# Altium schematic symbol library SCH - CONNECTORS - Display Visions - EA WF030-39S.SchLib: 1 symbol
Pins are listed as number, name and electrical type; pins without a type are passive.

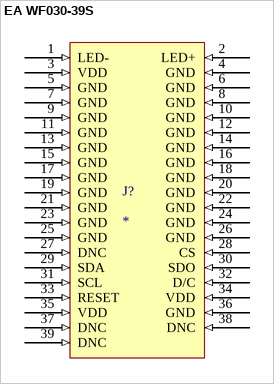
[diagram p0: symbol EA WF030-39S]

## EA WF030-39S
designator J?
pins: 1 LED- (in), 2 LED+ (in), 3 VDD (in), 4 GND (in), 5 GND (in), 6 GND (in), 7 GND (in), 8 GND (in), 9 GND (in), 10 GND (in), 11 GND (in), 12 GND (in), 13 GND (in), 14 GND (in), 15 GND (in), 16 GND (in), 17 GND (in), 18 GND (in), 19 GND (in), 20 GND (in), 21 GND (in), 22 GND (in), 23 GND (in), 24 GND (in), 25 GND (in), 26 GND (in), 27 DNC (in), 28 CS (in), 29 SDA (in), 30 SDO (in), 31 SCL (in), 32 D/C (in), 33 RESET (in), 34 VDD (in), 35 VDD (in), 36 GND (in), 37 DNC (in), 38 DNC (in), 39 DNC (in)